# EAGLE library part ADS5204 (library TI)
12 bit, 2 Channel, Parallel, Analog to Digital Converter (Texas Instruments)
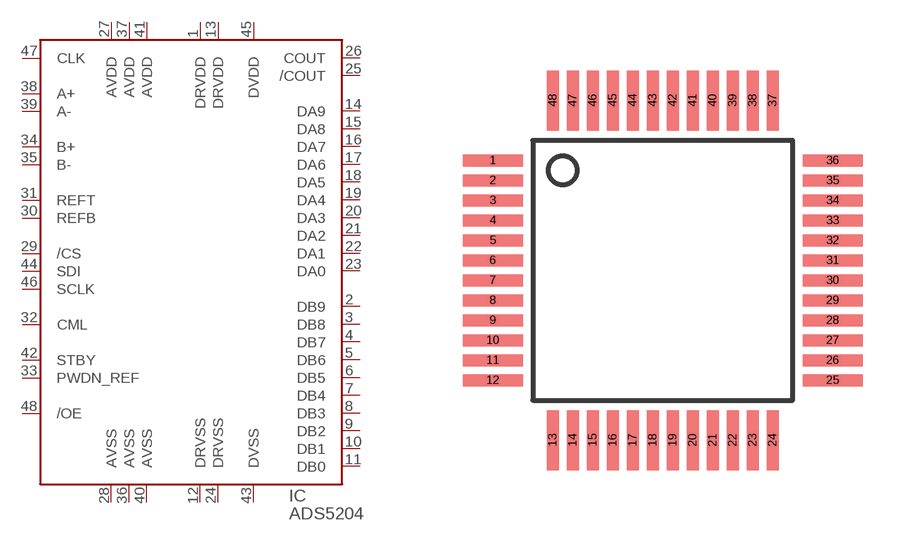
[diagram p0: symbol with the pads of TQFP48; footprint TQFP48]

Designator prefix IC

## ADS5204PFB  [TQFP48]
1  DRVDD  pwr
2  DB9
3  DB8
4  DB7
5  DB6
6  DB5
7  DB4
8  DB3
9  DB2
10  DB1
11  DB0
12  DRVSS  pwr
13  DRVDD  pwr
14  DA9
15  DA8
16  DA7
17  DA6
18  DA5
19  DA4
20  DA3
21  DA2
22  DA1
23  DA0
24  DRVSS  pwr
25  /COUT
26  COUT
27  AVDD  pwr
28  AVSS  pwr
29  /CS
30  REFB
31  REFT
32  CML
33  PWDN_REF
34  B+
35  B-
36  AVSS  pwr
37  AVDD  pwr
38  A+
39  A-
40  AVSS  pwr
41  AVDD  pwr
42  STBY
43  DVSS  pwr
44  SDI
45  DVDD  pwr
46  SCLK
47  CLK
48  /OE

## Footprint TQFP48 (pad centres in mm)
48 pin Plastic Quad Flat Pack, 0.5mm pitch
smd 1.5 x 0.3: 1 -4.25,2.75; 2 -4.25,2.25; 3 -4.25,1.75; 4 -4.25,1.25; 5 -4.25,0.75; 6 -4.25,0.25; 7 -4.25,-0.25; 8 -4.25,-0.75; 9 -4.25,-1.25; 10 -4.25,-1.75; 11 -4.25,-2.25; 12 -4.25,-2.75; 25 4.25,-2.75; 26 4.25,-2.25; 27 4.25,-1.75; 28 4.25,-1.25; 29 4.25,-0.75; 30 4.25,-0.25; 31 4.25,0.25; 32 4.25,0.75; 33 4.25,1.25; 34 4.25,1.75; 35 4.25,2.25; 36 4.25,2.75
smd 0.3 x 1.5: 13 -2.75,-4.25; 14 -2.25,-4.25; 15 -1.75,-4.25; 16 -1.25,-4.25; 17 -0.75,-4.25; 18 -0.25,-4.25; 19 0.25,-4.25; 20 0.75,-4.25; 21 1.25,-4.25; 22 1.75,-4.25; 23 2.25,-4.25; 24 2.75,-4.25; 37 2.75,4.25; 38 2.25,4.25; 39 1.75,4.25; 40 1.25,4.25; 41 0.75,4.25; 42 0.25,4.25; 43 -0.25,4.25; 44 -0.75,4.25; 45 -1.25,4.25; 46 -1.75,4.25; 47 -2.25,4.25; 48 -2.75,4.25